# EAGLE library part 6180XX325323_618015325323 (library WR-DSUB)
WR-DSUB Male High Density Angled PCB Connector w/o Hex Screw Kind Properties Quality Class:3 as per CECC 75 301-802 Gender:Male Type:Angled Insulator Material:PBT Insulator Flammability Rating:UL94 V-0 Color:Black Contact Material:Copper Alloy Contact Plating:Selective Gold Contact Type:Stamped Shielding Material:Steel Shielding Plating:Nickel General Information Operating Temperature:-55 up to +105 °C Compliance:RoHS Electrical Properties IR1:3 A Working Voltage:60 V (AC) Withstanding Voltage:1000 V (AC) Contact Resistance:30 mΩ <https://www.we-online.com/catalog/media/o33092v209%20Family_WR-DSUB_6180xx325323.jpg> Details see: https://www.we-online.com/catalog/en/DSUB_MALE_HIGH_DENSITY_ANGLED_PCB_CONNECTOR_W_O_HEX_SCREW_6180XX325323/ Updated by Yingchun, Shan 2020-01-09 2020 (C) Würth Elektronik
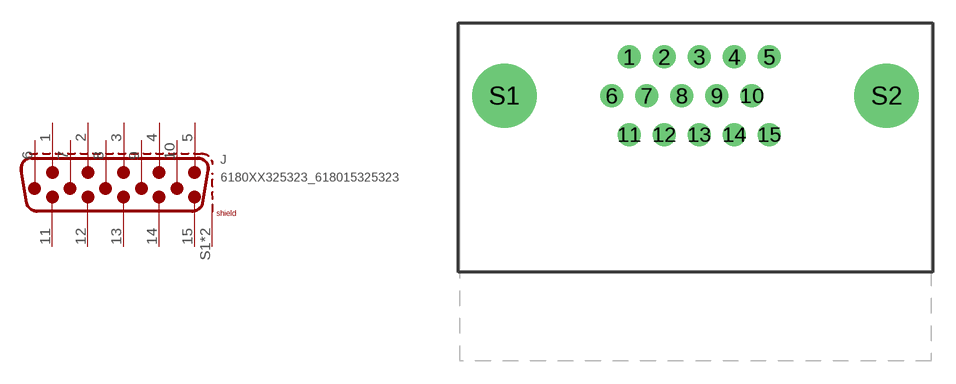
[diagram p30: symbol with the pads of 618015325323; footprint 618015325323]

Designator prefix J

## 6180XX325323_618015325323 (DATASHEET-URL: https://www.we-online.com/redexpert/spec/618015325323?ae; GENDER: Male; OPERATING-TEMPERATURE: -55 °C up to +105 °C; PART-NUMBER: 618015325323; PINS: 15; TYPE: Angled; VALUE: 618015325323; WORKING-VOLTAGE: 60VAC)  [618015325323]
1  1
2  2
3  3
4  4
5  5
6  6
7  7
8  8
9  9
10  10
11  11
12  12
13  13
14  14
15  15
S1  SHIELD
S2  SHIELD

## Footprint 618015325323 (pad centres in mm)
WR-DSUB Male High Density Angled PCB Connector without Hex Screw, 15 Pins
drill 1: 1 -4.326,8.88; 2 -2.036,8.88; 3 0.254,8.88; 4 2.544,8.88; 5 4.834,8.88; 6 -5.471,6.34; 7 -3.181,6.34; 8 -0.891,6.34; 9 1.399,6.34; 10 3.689,6.34; 11 -4.326,3.8; 12 -2.036,3.8; 13 0.254,3.8; 14 2.544,3.8; 15 4.834,3.8
drill 3.2: S1 -12.495,6.34; S2 12.495,6.34